# Altium footprint library 50YXJ100MT78X11P5.PcbLib: 1 footprints
Each footprint in its own frame and in the unit in brackets; x right, y up, seen from the top. Pads: shape width x height; smd on the part's side, far side on the other; paste and mask are expansions set on the pad; w line width, h text height; cw(c..) or ccw(c..) is an arc to the next point about the centre after c.
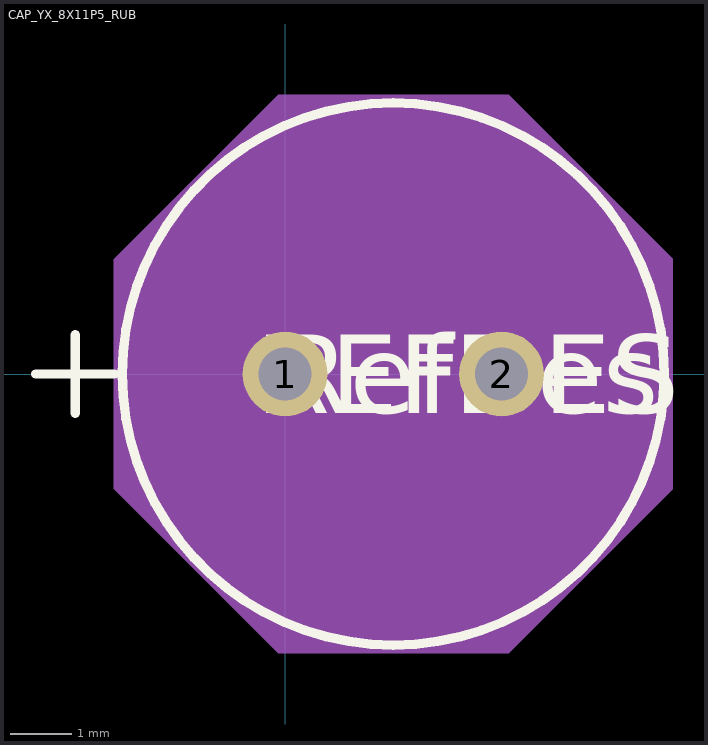
[diagram p0: the footprint, top view; thin cyan lines are the x and y axes]

## CAP_YX_8X11P5_RUB [mil]
pads (2):
  round 54 / inner round 60 / far side round 54 hole 34 paste-27 mask+0: 1(0,0) 2(137.8,0)
Top Overlay:
  circle w6: c68.9,0 r172.5
  lines w6: -158.6,0 -108.6,0 ; -133.6,-25 -133.6,25
  text "RefDes" at -6.1,-25 h50
  text "REFDES" at -18.6,-25 h50
Mechanical 13:
  circle w0: c68.9,0 r167.5
  lines w1: -158.6,0 -108.6,0 ; -133.6,-25 -133.6,25
  text "RefDes2" at -18.6,-25 h50
Mechanical 15:
  region: -108.6,73.09 -4.19,177.5 141.99,177.5 246.4,73.09 246.4,-73.09 141.99,-177.5 -4.19,-177.5 -108.6,-73.09
  lines w1: -108.6,-73.09 -4.19,-177.5 141.99,-177.5 246.4,-73.09 246.4,73.09 141.99,177.5 -4.19,177.5 -108.6,73.09 -108.6,-73.09
3D body "CAP_YX_8X11P5_RUB.step": height 512.6, standoff -172.01, extent -98.58,-167.38 237.43,167.38